# EAGLE library part 62501422021 (library Wire-to-Board (rev18a))
WR-BHD 2.00mm Male Box Header With Lever, 14 Pins=>Code : Con_WTB_BHD_2.00_Male_THT_62501422021 <http://katalog.we-online.de/media/thumbs2/eican/thb_Con_WTB_BHD_2.00_Male_THT_6250xx22021_pf2.jpg> Details see: http://katalog.we-online.de/en/em/625_0xx_220_21 Created 2014-06-05, Karrer Zheng 2014 (C) Würth Elektronik
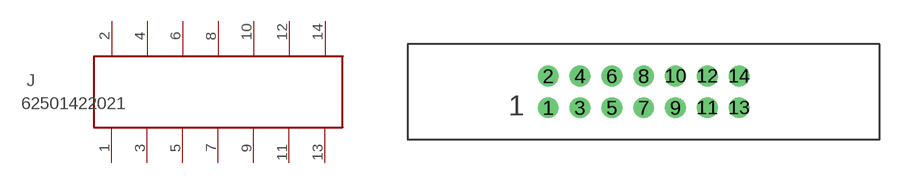
[diagram p218: symbol with the pads of 62501422021; footprint 62501422021]

Designator prefix J

## 62501422021  [62501422021]
1  1  pas
2  2  pas
3  3  pas
4  4  pas
5  5  pas
6  6  pas
7  7  pas
8  8  pas
9  9  pas
10  10  pas
11  11  pas
12  12  pas
13  13  pas
14  14  pas

## Footprint 62501422021 (pad centres in mm)
WR-BHD 2.00mm Male Box Header With Lever, 14 Pins
drill 0.8: 1 -6,-1; 2 -6,1; 3 -4,-1; 4 -4,1; 5 -2,-1; 6 -2,1; 7 0,-1; 8 0,1; 9 2,-1; 10 2,1; 11 4,-1; 12 4,1; 13 6,-1; 14 6,1